# EAGLE library part X__JST_SH_LIEGEND_5 (library 16112011___connector)
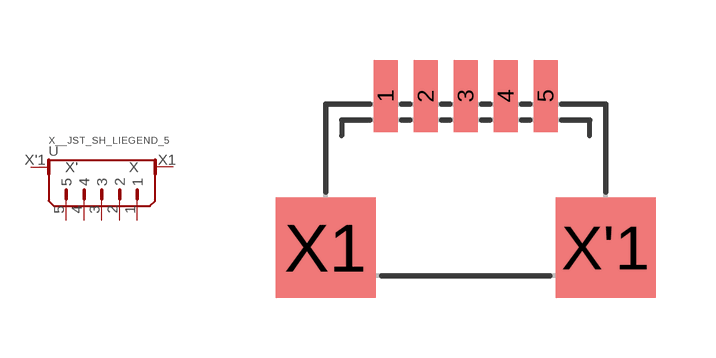
[diagram p28: symbol with the pads of JST_SH_LIEGEND_5; footprint JST_SH_LIEGEND_5]

Designator prefix -

## X__JST_SH_LIEGEND_5  [JST_SH_LIEGEND_5]
1  1
2  2
3  3
4  4
5  5
X1  X
X'1  X'

## Footprint JST_SH_LIEGEND_5 (pad centres in mm)
smd 0.6 x 1.8: 1 0,0; 2 1,0; 3 2,0; 4 3,0; 5 4,0
smd 2.5 x 2.5: X1 -1.5,-3.8; X'1 5.5,-3.8